# EAGLE library part TERMINAL_BLOCK_10M_6WAY (library EW_00_Ken)
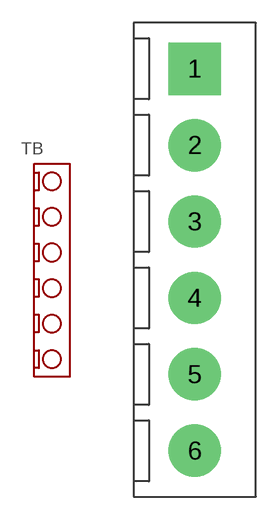
[diagram p7: symbol with the pads of TERMINAL_BLOCK_6WAY; footprint TERMINAL_BLOCK_6WAY]

Designator prefix TB

## TERMINAL_BLOCK_10M_6WAY  [TERMINAL_BLOCK_6WAY]
1  1  pas
2  2  pas
3  3  pas
4  4  pas
5  5  pas
6  6  pas

## Footprint TERMINAL_BLOCK_6WAY (pad centres in mm)
drill 0.8 pad 3.429 square: 1 0,0
drill 0.8 pad 3.429: 2 0,-5; 3 0,-10; 4 0,-15; 5 0,-20; 6 0,-25